# EAGLE library part AAT4282B (library ICs)
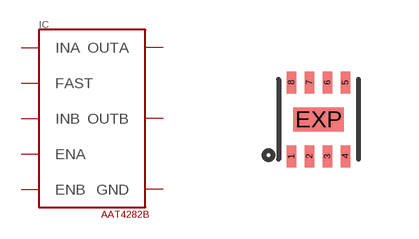
[diagram p7: symbol with the pads of TDFN22-8; footprint TDFN22-8]

Designator prefix IC

## AAT4282B (MN: Skyworks Solutions Inc.; MN_CODE: AAT4282BIPS-3-T1; ORDER: DIGIKEY; ORDER_CODE: 863-1514-2-ND)  [TDFN22-8]
1  INA
2  ENA
3  ENB
4  INB
5  OUTB
6  GND
7  FAST
8  OUTA
EXP  GND

## Footprint TDFN22-8 (pad centres in mm)
smd 0.23 x 0.55: 1 -0.675,-0.925; 2 -0.225,-0.925; 3 0.225,-0.925; 4 0.675,-0.925; 5 0.675,0.925; 6 0.225,0.925; 7 -0.225,0.925; 8 -0.675,0.925
smd 1.27 x 0.6: EXP 0,0